# Altium footprint library pcblib_by_wjy.PcbLib: 111 footprints (part 1 of 7)
Each footprint in its own frame and in the unit in brackets; x right, y up, seen from the top. Pads: shape width x height; smd on the part's side, far side on the other; paste and mask are expansions set on the pad; w line width, h text height; cw(c..) or ccw(c..) is an arc to the next point about the centre after c.
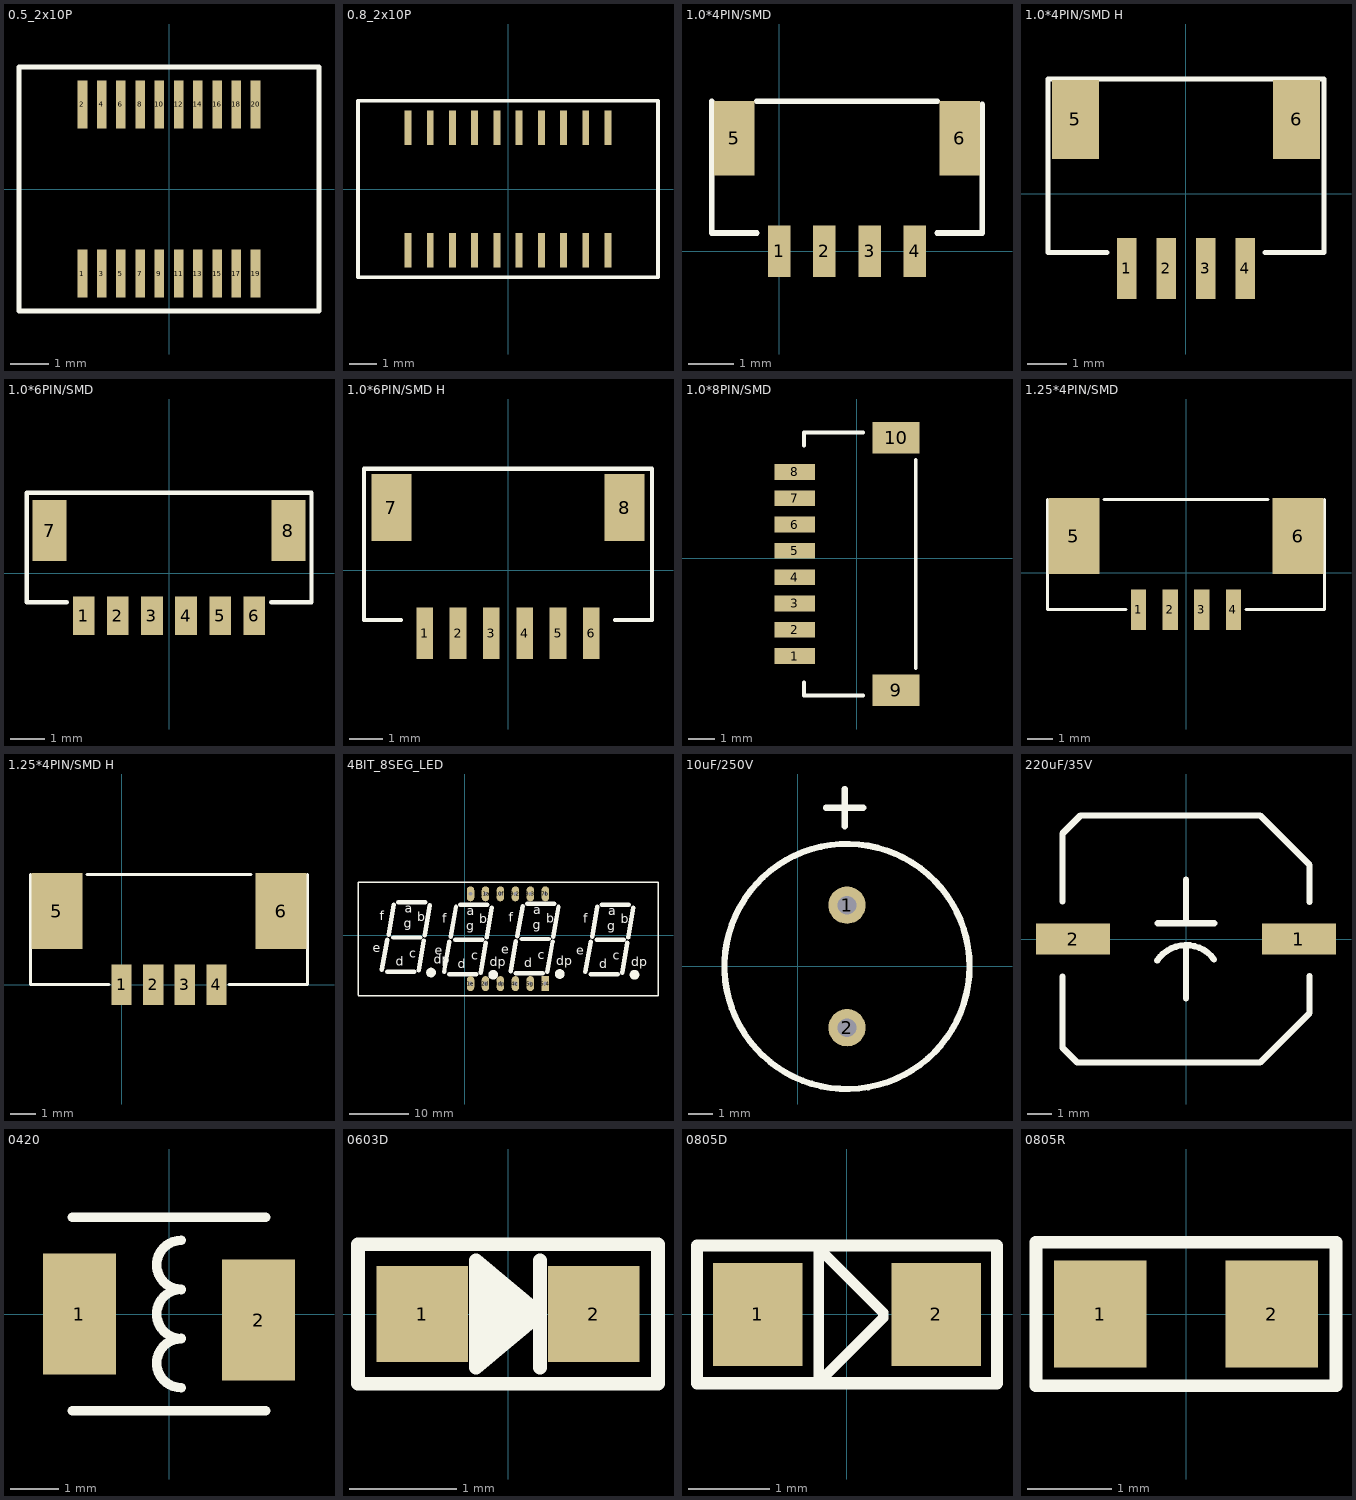
[diagram p0: the footprints below, top view; thin cyan lines are the x and y axes]

## 0.5_2x10P [mm]
pads (20):
  rect 0.25x1.25 smd: 1(-2.25,-2.2) 2(-2.25,2.2) 3(-1.75,-2.2) 4(-1.75,2.2) 5(-1.25,-2.2) 6(-1.25,2.2) 7(-0.75,-2.2) 8(-0.75,2.2) 9(-0.25,-2.2) 10(-0.25,2.2) 11(0.25,-2.2) 12(0.25,2.2) 13(0.75,-2.2) 14(0.75,2.2) 15(1.25,-2.2) 16(1.25,2.2) 17(1.75,-2.2) 18(1.75,2.2) 19(2.25,-2.2) 20(2.25,2.2)
Top Overlay:
  lines w0.127: -3.9,-3.175 -3.9,3.175 3.9,3.175 3.9,-3.175 -3.9,-3.175

## 0.8_2x10P [mm]
pads (20):
  rect 0.25x1.25 smd: 1(-3.6,-2.2) 2(-3.6,2.2) 3(-2.8,-2.2) 4(-2.8,2.2) 5(-2,-2.2) 6(-2,2.2) 7(-1.2,-2.2) 8(-1.2,2.2) 9(-0.4,-2.2) 10(-0.4,2.2) 11(0.4,-2.2) 12(0.4,2.2) 13(1.2,-2.2) 14(1.2,2.2) 15(2,-2.2) 16(2,2.2) 17(2.8,-2.2) 18(2.8,2.2) 19(3.6,-2.2) 20(3.6,2.2)
Top Overlay:
  lines w0.127: -5.4,-3.175 5.4,-3.175 5.4,3.175 -5.4,3.175 -5.4,-3.175

## 1.0*4PIN/SMD [mm]
pads (6):
  rect 0.5x1.143 smd: 1(0,0) 2(1,0) 3(2,0) 4(3,0)
  rect 0.889x1.651 smd: 5(-1,2.5) 6(4,2.5)
Top Overlay:
  lines w0.127: -1.5,3.325 -1.5,0.4 -0.5,0.4 ; -0.5,3.325 3.5,3.325 ; 3.5,0.4 4.5,0.4 4.5,3.25

## 1.0*4PIN/SMD H [mm]
pads (6):
  rect 0.5x1.55 smd: 1(-1.5,-1.887) 2(-0.5,-1.887) 3(0.5,-1.887) 4(1.5,-1.887)
  rect 1.2x2 smd: 5(-2.8,1.887) 6(2.8,1.887)
Top Overlay:
  lines w0.127: -2,-1.487 -3.5,-1.488 -3.5,2.913 3.5,2.913 3.5,-1.488 2,-1.488
3D body "4pin.stp": height 3.23, standoff 0.03, extent -3.277,-2.066 3.223,2.934

## 1.0*6PIN/SMD [mm]
pads (8):
  rect 0.635x1.143 smd: 1(-2.5,-1.25) 2(-1.5,-1.25) 3(-0.5,-1.25) 4(0.5,-1.25) 5(1.5,-1.25) 6(2.5,-1.25)
  rect 1x1.8 smd: 7(-3.5,1.25) 8(3.5,1.25)
Top Overlay:
  lines w0.127: -3,-0.85 -4.176,-0.85 -4.176,2.357 4.18,2.357 4.18,-0.85 3,-0.85
3D body: height 4, standoff 0, extent -3.745,-0.869 3.723,2.433

## 1.0*6PIN/SMD H [mm]
pads (8):
  rect 0.5x1.55 smd: 1(-2.5,-1.887) 2(-1.5,-1.887) 3(-0.5,-1.887) 4(0.5,-1.887) 5(1.5,-1.887) 6(2.5,-1.887)
  rect 1.2x2 smd: 7(-3.5,1.887) 8(3.5,1.887)
Top Overlay:
  lines w0.127: -3.211,-1.488 -4.318,-1.488 -4.318,3.048 4.318,3.048 4.318,-1.488 3.211,-1.488

## 1.0*8PIN/SMD [mm]
pads (10):
  rect 1.55x0.6 smd: 1(-2.352,-3.718) 2(-2.352,-2.718) 3(-2.352,-1.718) 4(-2.352,-0.718) 5(-2.352,0.282) 6(-2.352,1.282) 7(-2.352,2.282) 8(-2.352,3.282)
  rect 1.8x1.2 smd: 9(1.498,-5.018) 10(1.498,4.582)
Top Overlay:
  lines w0.15: -2.002,-4.718 -2.002,-5.218 0.248,-5.218 ; -2.002,4.282 -2.002,4.782 0.248,4.782 ; 2.248,-4.168 2.248,3.732
3D body: height 2.92, standoff -0.04, extent -2.702,-5.218 2.248,4.782

## 1.25*4PIN/SMD [mm]
pads (6):
  rect 0.6x1.6 smd: 1(-1.875,-1.45) 2(-0.625,-1.45) 3(0.625,-1.45) 4(1.875,-1.45)
  rect 2x3 smd: 5(-4.425,1.45) 6(4.425,1.45)
Top Overlay:
  lines w0.127: -5.475,2.9 -5.475,-1.45 -2.375,-1.45 ; -3.225,2.9 3.225,2.9 ; 2.375,-1.45 5.475,-1.45 5.475,2.9
3D body "4pin-lishi.stp": height 4.67, standoff -0.2, extent -4.72,-1.145 4.83,2.755

## 1.25*4PIN/SMD H [mm]
pads (6):
  rect 0.8x1.6 smd: 1(0,0) 2(1.25,0) 3(2.5,0) 4(3.75,0)
  rect 2x3 smd: 5(-2.55,2.9) 6(6.3,2.9)
Top Overlay:
  lines w0.127: -3.6,4.35 -3.6,0 -0.5,0 ; -1.35,4.35 5.1,4.35 ; 4.25,0 7.35,0 7.35,4.35
3D body "4pinwotie.stp": height 3.55, standoff -0.4, extent -2.99,-0.42 6.75,5.03

## 4BIT_8SEG_LED [mil]
pads (12):
  oval 50x100 hole 25: 1e(37,-323) 2d(137,-323) 3dp(237,-323) 4c(337,-323) 5g(437,-323) 7b(537,277) 8.3(437,277) 9.2(337,277) 10f(237,277) 11a(137,277) 12.1(37,277)
  rect 50x100 hole 25: 6.4(537,-323)
Top Overlay:
  circle w40: c188,-264 r12
  circle w40: c-227,-249 r12
  circle w40: c633,-259 r12
  circle w40: c1133,-264 r12
  lines w10: -715,-405 1290,-405 ; -715,-401 -715,355 1290,355 1290,-404
  lines w30: -555,-230 -520,-30 ; -520,-245 -340,-245 ; -510,5 -475,205 ; -480,-15 -300,-15 ; -445,220 -265,220 ; -310,-235 -275,-35 ; -270,0 -235,200 ; -140,-245 -105,-45 ; -105,-260 75,-260 ; -95,-10 -60,190 ; -65,-30 115,-30 ; -30,205 150,205 ; 105,-250 140,-50 ; 145,-15 180,185 ; 305,-240 340,-40 ; 340,-255 520,-255 ; 350,-5 385,195 ; 380,-25 560,-25 ; 415,210 595,210 ; 550,-245 585,-45 ; 590,-10 625,190 ; 805,-245 840,-45 ; 840,-260 1020,-260 ; 850,-10 885,190 ; 880,-30 1060,-30 ; 915,205 1095,205 ; 1050,-250 1085,-50 ; 1090,-15 1125,185
  text "c" at 42,-165 h60
  text "dp" at 166,-207 h60
  text "e" at -203,-130 h60
  text "d" at -48,-220 h60
  text "a" at 12,135 h60
  text "g" at 7,35 h60
  text "b" at 97,80 h60
  text "f" at -153,85 h60
  text "c" at -373,-150 h60
  text "dp" at -209,-192 h60
  text "e" at -618,-115 h60
  text "d" at -463,-205 h60
  text "a" at -403,150 h60
  text "g" at -408,50 h60
  text "b" at -318,95 h60
  text "f" at -568,100 h60
  text "c" at 487,-160 h60
  text "dp" at 611,-202 h60
  text "e" at 242,-125 h60
  text "d" at 397,-215 h60
  text "a" at 457,140 h60
  text "g" at 452,40 h60
  text "b" at 542,85 h60
  text "f" at 292,90 h60
  text "c" at 987,-165 h60
  text "dp" at 1111,-207 h60
  text "e" at 742,-130 h60
  text "d" at 897,-220 h60
  text "a" at 957,135 h60
  text "g" at 952,35 h60
  text "b" at 1042,80 h60
  text "f" at 792,85 h60

## 10uF/250V [mil]
pads (2):
  round 60 hole 30: 1(78.74,98.43) 2(78.74,-98.43)
Top Overlay:
  circle w10: c78.74,0 r196.85
  lines w10: 45,255 105,255 ; 75,225 75,285

## 220uF/35V [mm]
pads (2):
  rect 3x1.27 smd: 1(4.572,0) 2(-4.572,0)
Top Overlay:
  lines w0.254: -5,-1.524 -5,-4.398 -4.398,-5 3,-5 5,-3 5,-1.5 ; -5,1.524 -5,4.271 -4.271,5 3,5 5,3 5,1.5 ; -1.167,-0.873 cw(c0,-1.651) 1.134,-0.826 ; -1.143,0.635 1.143,0.635 ; 0,-2.413 0,-0.254 ; 0,0.635 0,2.413

## 0420 [mm]
pads (2):
  rect 1.5x2.5 smd: 1(-1.85,0) 2(1.85,-0.127)
Top Overlay:
  lines w0.2: -2,-2 2,-2 ; -2,2 2,2 ; 0.254,-1.524 cw(c0.254,-1.016) 0.254,-0.508 cw(c0.254,0) 0.254,0.508 cw(c0.254,1.016) 0.254,1.524

## 0603D [mm]
pads (2):
  rect 0.85x0.9 smd: 1(-0.8,0) 2(0.8,0)
Top Overlay:
  lines w0.127: -0.3,-0.36 0.2,0.06 ; -0.3,0.35 0.2,-0.07 ; -1.4,-0.65 -1.4,0.65 1.4,0.65 1.4,-0.65 -1.4,-0.65
  lines w0.13: 0.3,-0.5 0.3,0.5 ; -0.3,-0.5 0.3,0 -0.3,0.5 -0.3,-0.5
  lines w0.35: -0.13,-0.2 -0.13,0.2
3D body "0603R.STEP": height 1.1, standoff 0, extent -0.848,-0.4 0.772,0.4

## 0805D [mm]
pads (2):
  rect 1.1x1.27 smd: 1(-1.1,0) 2(1.1,0)
Top Overlay:
  lines w0.127: -0.347,-0.85 -0.347,0.86 ; -0.316,-0.819 -0.316,-0.804 0.447,-0.041 0.447,0.021 -0.316,0.784
  lines w0.152: -1.85,-0.85 -1.85,0.85 1.85,0.85 1.85,-0.85 -1.85,-0.85
3D body: height 0.7, standoff 0, extent -1.468,-0.638 1.468,0.636

## 0805R [mm]
pads (2):
  rect 1.1x1.27 smd: 1(-1.016,0) 2(1.016,0)
Top Overlay:
  lines w0.152: -1.778,-0.85 1.778,-0.85 1.778,0.85 -1.778,0.85 -1.778,-0.85